# Altium footprint library SparkFun-Coils.PCBLIB: 26 footprints (part 2 of 2)
Each footprint in its own frame and in the unit in brackets; x right, y up, seen from the top. Pads: shape width x height; smd on the part's side, far side on the other; paste and mask are expansions set on the pad; w line width, h text height; cw(c..) or ccw(c..) is an arc to the next point about the centre after c.
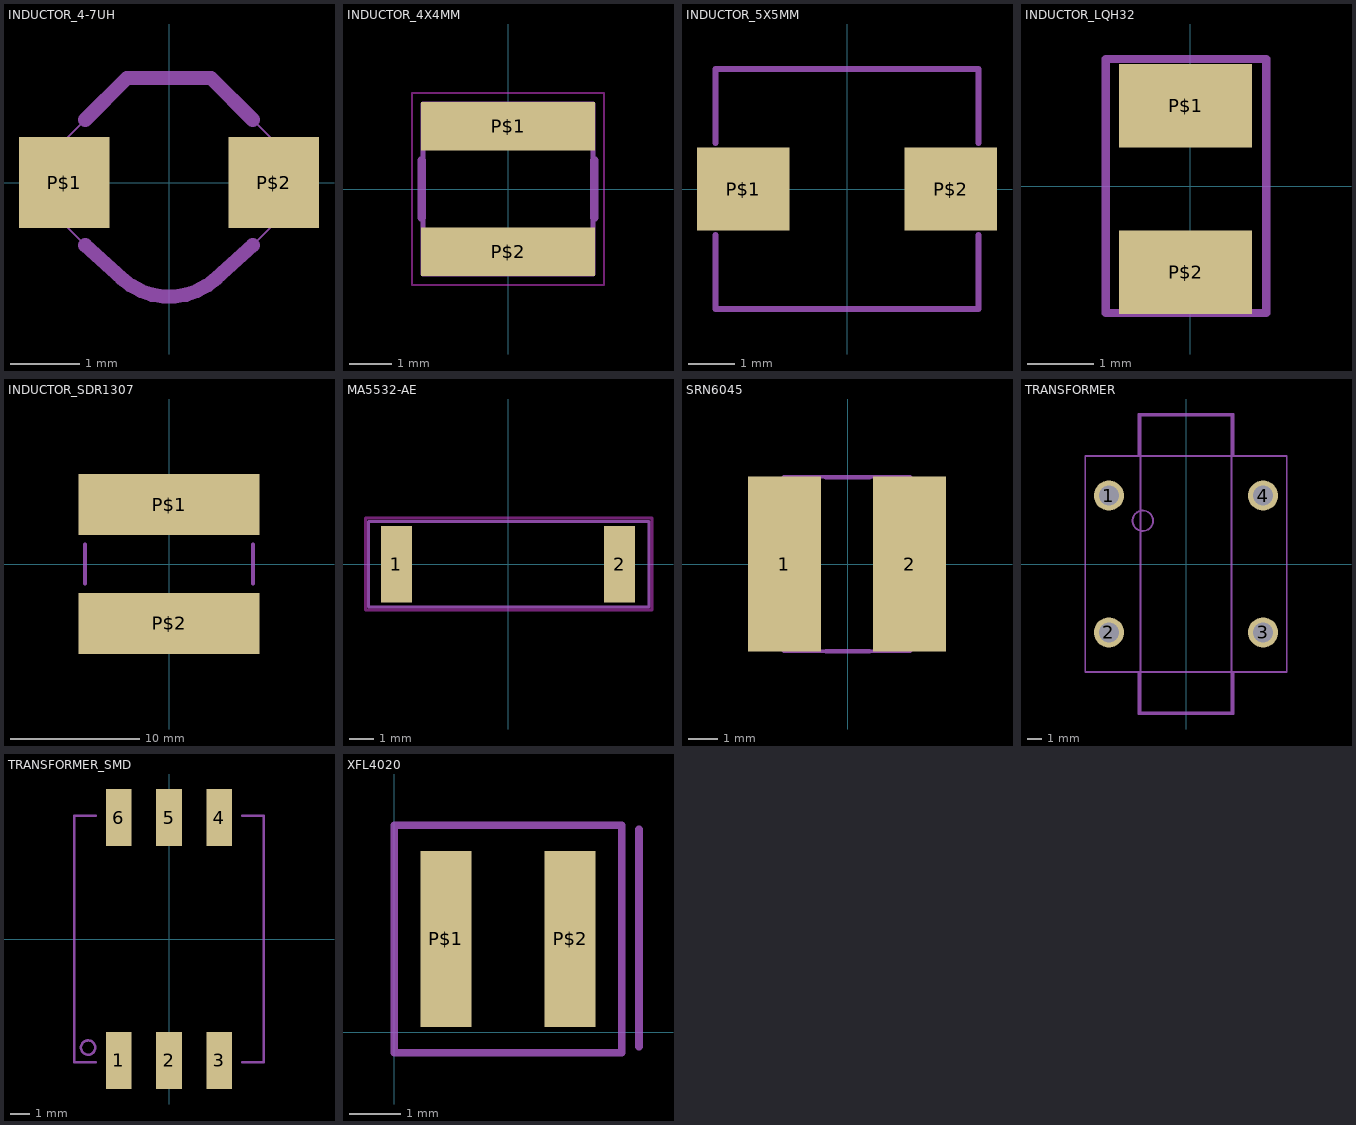
[diagram p1: the footprints below, top view; thin cyan lines are the x and y axes]

## INDUCTOR_4-7UH [mm]
pads (2):
  rect 1.3x1.3 smd: P$1(-1.5,0) P$2(1.5,0)
tDocu:
  lines w0.03: -1.5,-0.6 -0.707,-1.393 ccw(c0,-0.686) 0.707,-1.393 1.5,-0.6 1.5,0.6 0.6,1.5 -0.6,1.5 -1.5,0.6 -1.5,-0.6
tPlace:
  lines w0.203: -1.2,-0.9 -0.678,-1.374 ccw(c0,-0.639) 0.678,-1.374 1.2,-0.9 ; -1.2,0.9 -0.6,1.5 0.6,1.5 1.2,0.9

## INDUCTOR_4X4MM [mil]
pads (2):
  rect 161x45 smd: P$1(0,58) P$2(0,-58)
Top keep-out:
  lines w2: -88.5,-88.5 88.5,-88.5 88.5,88.5 -88.5,88.5 -88.5,-88.5
tDocu:
  lines w5: -78.5,-78.5 -78.5,78.5 78.5,78.5 78.5,-78.5 -78.5,-78.5
tPlace:
  lines w8: -79.69,-26.56 -79.69,26.56 ; 79.69,-26.56 79.69,26.56

## INDUCTOR_5X5MM [mm]
pads (2):
  rect 2x1.8 smd: P$1(-2.25,0) P$2(2.25,0)
tPlace:
  lines w0.127: -2.85,-1 -2.85,-2.6 2.85,-2.6 2.85,-1 ; -2.85,1 -2.85,2.6 2.85,2.6 2.85,1

## INDUCTOR_LQH32 [mm]
pads (2):
  rect 2x1.25 smd: P$1(-0.07,1.205) P$2(-0.07,-1.295)
tDocu:
  lines w0.127: -1.27,-1.905 -1.27,1.905 1.143,1.905 1.143,-1.905 -1.27,-1.905

## INDUCTOR_SDR1307 [mm]
pads (2):
  rect 14x4.75 smd: P$1(0,4.6) P$2(0,-4.6)
tPlace:
  lines w0.305: -6.5,-1.5 -6.5,1.5 ; 6.5,-1.5 6.5,1.5

## MA5532-AE [mil]
pads (2):
  rect 51.18x126 smd: 1(-183.07,0) 2(183.07,0)
Top keep-out:
  lines w5: -233.87,-75 -233.87,76 236.13,76 236.13,-75 -233.87,-75
tDocu:
  lines w5: -228.87,-70 231.13,-70 231.13,70 -228.87,70 -228.87,-70

## SRN6045 [mm]
pads (2):
  rect 2.5x6 smd: 1(-2.175,0) 2(2.125,0)
tDocu:
  lines w0.127: -3.175,-2 -2.175,-3 2.125,-3 3.125,-2 3.125,2 2.125,3 -2.175,3 -3.175,2 -3.175,-2
tPlace:
  lines w0.152: -0.762,-3 0.762,-3 ; -0.762,2.969 0.762,2.969

## TRANSFORMER [mm]
pads (4):
  round 2.1 hole 1.4: 1(-5.35,4.75) 2(-5.35,-4.75) 3(5.35,-4.75) 4(5.35,4.75)
tDocu:
  lines w0.127: -3.15,-10.3 -3.15,10.3 3.15,10.3 3.15,-10.3 -3.15,-10.3
tPlace:
  circle w0.127: c-3,3 r0.71
  lines w0.127: -3.302,-7.518 -3.302,-10.414 3.302,-10.414 3.302,-7.518 ; -3.302,7.544 -3.302,10.414 3.302,10.414 3.302,7.518 ; -7,-7.5 -7,7.5 7,7.5 7,-7.5 -7,-7.5

## TRANSFORMER_SMD [mm]
pads (6):
  rect 1.3x2.9 smd: 1(-2.54,-6.15) 2(0,-6.15) 3(2.54,-6.15) 4(2.54,6.15) 5(0,6.15) 6(-2.54,6.15)
tPlace:
  circle w0.127: c-4.1,-5.5 r0.36
  lines w0.127: -3.7,-6.25 -4.8,-6.25 -4.8,6.25 -3.7,6.25 ; 3.7,-6.25 4.8,-6.25 4.8,6.25 3.7,6.25

## XFL4020 [mm]
pads (2):
  rect 0.98x3.4 smd: P$1(1,1.8) P$2(3.4,1.8)
tDocu:
  lines w0.152: 0,-0.4 0,4 4.4,4 4.4,-0.4 0,-0.4
tPlace:
  lines w0.152: 4.736,-0.281 4.736,3.919